# EAGLE library part TPS6215* (library buck_converter)
3-17V 1A Step-Down Converter in 3x3 QFN Package Input Voltage Range: 3 to 17V Up to 1A Output Current Adjustable Output Voltage from 0.9 to 6V Pin-Selectable Output Voltage (nominal, + 5%) Programmable Soft Start and Tracking Seamless Power Save Mode Transition Quiescent Current of 17μA (typ.) Selectable Operating Frequency Power Good Output 100% Duty Cycle Mode Short Circuit Protection Over Temperature Protection Available in a 3 × 3 mm, QFN-16 Package adjustable TPS621 50 adjustable, PG=LOW in shutdown TPS621 50A 1.8 V TPS621 51 3.3 V TPS621 52 5.0 V TPS621 53
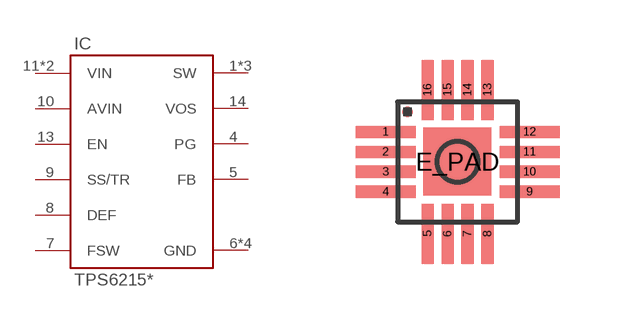
[diagram p0: symbol with the pads of QFN16_05; footprint QFN16_05]

Designator prefix IC

## TPS62150 (V_OUT: adjustable), TPS62150A (V_OUT: adjustable (PG=LOW in shutdown)), TPS62151 (V_OUT: 1.8 V), TPS62152 (OC_FARNELL: 2382918; V_OUT: 3.3 V), TPS62153 (V_OUT: 5.0 V)  [QFN16_05]
1  SW  out
2  SW  out
3  SW  out
4  PG  oc
5  FB  pas
6  GND  pwr
7  FSW  in
8  DEF  in
9  SS/TR  pas
10  AVIN  pwr
11  VIN  pwr
12  VIN  pwr
13  EN  in
14  VOS  pas
15  GND  pwr
16  GND  pwr
E_PAD  GND  pwr

## Footprint QFN16_05 (pad centres in mm)
SMALL square INTEGRATED CIRCUIT wide body 4x4 mm
smd 1.5 x 0.3: 1 -1.8,0.75; 2 -1.8,0.25; 3 -1.8,-0.25; 4 -1.8,-0.75; 9 1.8,-0.75; 10 1.8,-0.25; 11 1.8,0.25; 12 1.8,0.75
smd 0.3 x 1.5: 5 -0.75,-1.8; 6 -0.25,-1.8; 7 0.25,-1.8; 8 0.75,-1.8; 13 0.75,1.8; 14 0.25,1.8; 15 -0.25,1.8; 16 -0.75,1.8
smd 1.7 x 1.7: E_PAD 0,0